# Altium footprint library MINIRACER.PcbLib: 33 footprints (part 3 of 3)
Each footprint in its own frame and in the unit in brackets; x right, y up, seen from the top. Pads: shape width x height; smd on the part's side, far side on the other; paste and mask are expansions set on the pad; w line width, h text height; cw(c..) or ccw(c..) is an arc to the next point about the centre after c.
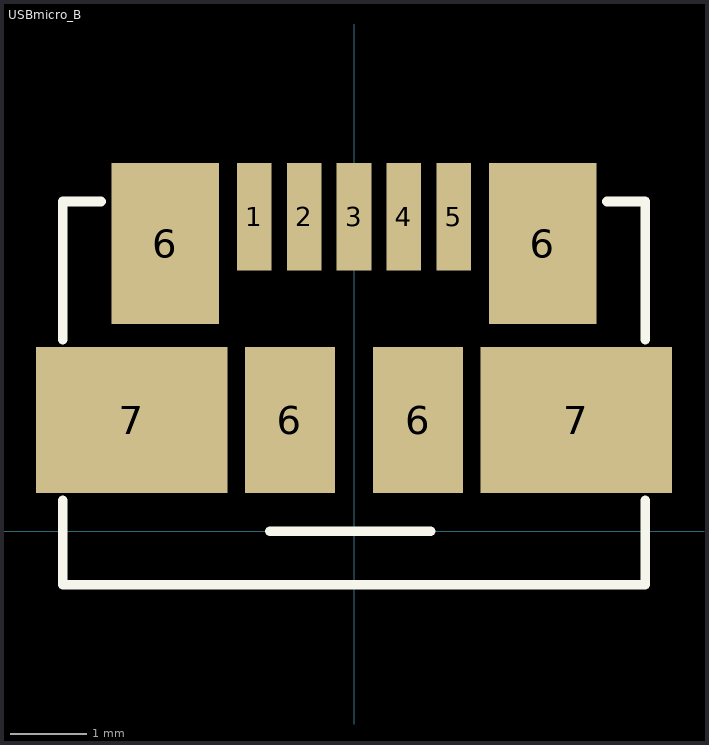
[diagram p2: the footprint, top view; thin cyan lines are the x and y axes]

## USBmicro_B [mm]
pads (11):
  rect 0.45x1.4 smd: 1(-1.3,4.1) 2(-0.65,4.1) 3(0,4.1) 4(0.65,4.1) 5(1.3,4.1)
  rect 1.4x2.1 smd: 6(-2.462,3.75) 6(2.462,3.75)
  rect 1.175x1.9 smd: 6(-0.835,1.45) 6(0.835,1.45)
  rect 2.5x1.9 smd: 7(-2.9,1.45) 7(2.9,1.45)
Top Overlay:
  lines w0.127: -3.8,0.4 -3.8,-0.7 3.8,-0.7 3.8,0.4 ; -3.8,2.5 -3.8,4.3 -3.3,4.3 ; -1.1,0 1,0 ; 3.3,4.3 3.8,4.3 3.8,2.5